# Altium schematic symbol library Transistor.SchLib: 7 symbols
Pins are listed as number, name and electrical type; pins without a type are passive.

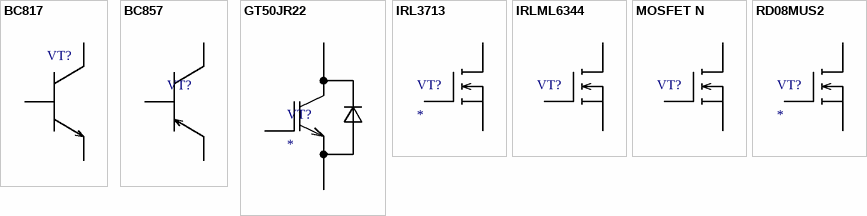
[diagram p0: symbols BC817 to RD08MUS2]

## BC817
designator VT?  (value not drawn)
footprint SOT23-3N - bipolar (SOT23, 3-Leads, Body 2,90x2,45mm, Pitch 0,95mm, IPC Medium Density)
pins: B 27, C 25, E 26

## BC857
designator VT?  (value not drawn)
footprint SOT23-3N - bipolar (SOT23, 3-Leads, Body 2,90x2,45mm, Pitch 0,95mm, IPC Medium Density)
pins: B 27, C 25, E 26

## GT50JR22
designator VT?
footprint TO-3P(N)
pins: E 16, G, K

## IRL3713
designator VT?
footprint TO-220AB
pins: D, G, S

## IRLML6344
designator VT?  (value not drawn)
Order: *
footprint SOT23-3N (SOT23, 3-Leads, Body 2,90x2,45mm, Pitch 0,95mm, IPC Medium Density)
pins: D, G, S

## MOSFET N
designator VT?  (value not drawn)
Name1: IRFS7734; Order: *
footprint TO-30E_1 - duplicate (Footprint not found)
footprint D2PAK (D2-PAK, 3-Pads, Body 7,93x8,70mm (max), IPC Medium Density)
pins: D, G, S

## RD08MUS2
designator VT?
footprint RD08MUS2
pins: D, G, S